# EAGLE library part FM24CL16B-G (library FM24CL16B-G_fram)
16-Kbit (2K × 8) Serial (I2C) F-RAM
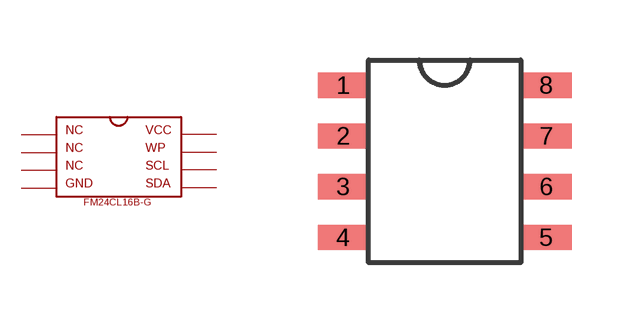
[diagram p0: symbol with the pads of FM24CL16B-G; footprint FM24CL16B-G]

Designator prefix -

## FM24CL16B-G  [FM24CL16B-G]
1  1  nc
2  2  nc
3  3  nc
4  4  pwr
5  5  in
6  6  in
7  7
8  8  pwr

## Footprint FM24CL16B-G (pad centres in mm)
smd 1.27 x 0.635: 1 -1.27,2.54; 2 -1.27,1.27; 3 -1.27,0; 4 -1.27,-1.27; 5 3.81,-1.27; 6 3.81,0; 7 3.81,1.27; 8 3.81,2.54